# Altium schematic symbol library CompPas.SchLib: 18 symbols
Pins are listed as number, name and electrical type; pins without a type are passive.

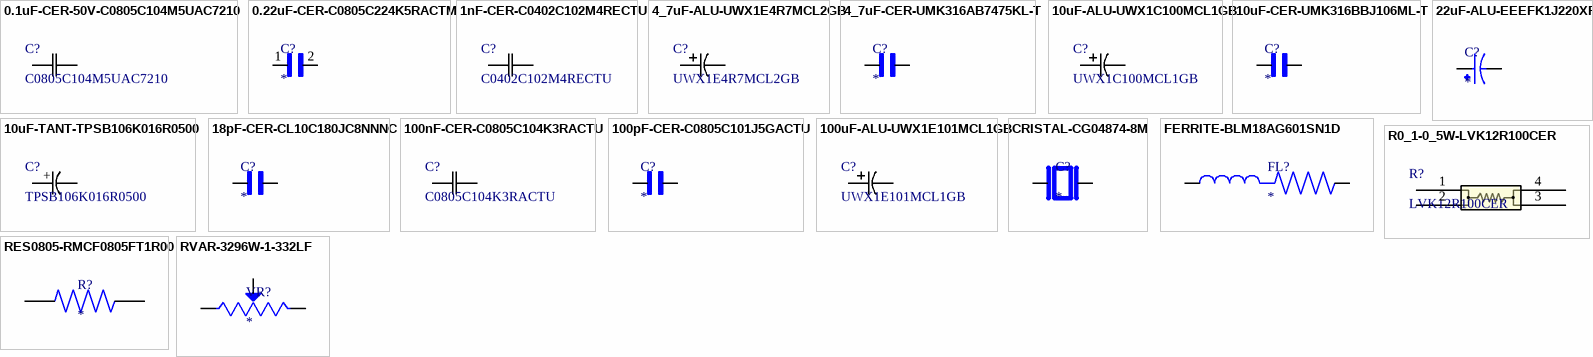
[diagram p0: symbols 0.1uF-CER-50V-C0805C104M5UAC7210 to RVAR-3296W-1-332LF]

## 0.1uF-CER-50V-C0805C104M5UAC7210
designator C?, comment C0805C104M5UAC7210
SMD Comm Z5U, Ceramic, 0.1 uF, 20%, 50 VDC, Z5U, SMD, MLCC, General Purpose, Class III, 0805; Manufacturer_Name: Kemet; Copyright: Copyright (C) 2026 Ultra Librarian. All rights reserved.; Manufacturer_Part_Number: C0805C104M5UAC7210; Datasheet: https://content.kemet.com/datasheets/KEM_C1004_Z5U_SMD.pdf
footprint CAPC220145_88N_KEM-M
pins: 1, 2

## 0.22uF-CER-C0805C224K5RACTM
designator C?
MP: C0805C224K5RACTM; Package: None; Price: None; Value: *; Availability: Unavailable
footprint CAPC2012X88N
pins: 1, 2

## 1nF-CER-C0402C102M4RECTU
designator C?, comment C0402C102M4RECTU
ESD SMD Comm X7R, Ceramic, 1000 pF, 20%, 16 VDC, X7R, SMD, MLCC, Temperature Stable, Electro Static Discharge, Class II, 0402; Manufacturer_Name: Kemet; Copyright: Copyright (C) 2026 Ultra Librarian. All rights reserved.; Manufacturer_Part_Number: C0402C102M4RECTU; Datasheet: https://content.kemet.com/datasheets/KEM_C1090_X7R_ESD.pdf
footprint CAPC10555_55N_KEM-M
pins: 1, 2

## 4_7uF-ALU-UWX1E4R7MCL2GB
designator C?, comment UWX1E4R7MCL2GB
Manufacturer_Name: Nichicon; Copyright: Copyright (C) 2026 Ultra Librarian. All rights reserved.; Manufacturer_Part_Number: UWX1E4R7MCL2GB
footprint PCAP_4x5.4-ELECT_NCA-m
pins: 1, 2

## 4_7uF-CER-UMK316AB7475KL-T
designator C?
Voltage: 50V; MF: Taiyo Yuden; MP: UMK316AB7475KLT; SnapEDA_Link: https://www.snapeda.com/parts/UMK316AB7475KLT/Taiyo+Yuden/view-part/?ref=snap; Package: SMD-2 TAIYO; Value: *; Check_prices: https://www.snapeda.com/parts/UMK316AB7475KLT/Taiyo+Yuden/view-part/?ref=eda
footprint CAPC3216X180N
pins: 1, 2

## 10uF-ALU-UWX1C100MCL1GB
designator C?, comment UWX1C100MCL1GB
Manufacturer_Name: Nichicon; Copyright: Copyright (C) 2026 Ultra Librarian. All rights reserved.; Manufacturer_Part_Number: UWX1C100MCL1GB
footprint PCAP_4x5.4-ELECT_NCA-M
pins: 1, 2

## 10uF-CER-UMK316BBJ106ML-T
designator C?
10 µF ±20% 50V Ceramic Capacitor X5R 1206 (3216 Metric); MF: Taiyo Yuden; MP: UMK316BBJ106ML-T; SnapEDA_Link: https://www.snapeda.com/parts/UMK316BBJ106ML-T/Taiyo+Yuden/view-part/?ref=snap; Package: 3216 Taiyo Yuden; Value: *; Check_prices: https://www.snapeda.com/parts/UMK316BBJ106ML-T/Taiyo+Yuden/view-part/?ref=eda
footprint CAPC3216X190N
pins: 1, 2

## 10uF-TANT-TPSB106K016R0500
designator C?, comment TPSB106K016R0500
Description; Manufacturer_Name: KYOCERA AVX; Copyright: Copyright (C) 2026 Ultra Librarian. All rights reserved.; Manufacturer_Part_Number: TPSB106K016R0500
footprint CAP_TPS_B_AVX-m
pins: 1, 2
text: +

## 18pF-CER-CL10C180JC8NNNC
designator C?
MF: {'manufacturer': u'Samsung Electro-Mechanics'}; MP: CL10C180JC8NNNC; Package: None; Price: None; Value: *; Availability: Unavailable
footprint CAPC1608X90N
pins: 1, 2

## 22uF-ALU-EEEFK1J220XP
designator C?
22 µF 63V Aluminum Electrolytic Capacitors Radial, Can - SMD 2000 Hrs @ 105 °C; MF: Panasonic; MP: EEEFK1J220XP; SnapEDA_Link: https://www.snapeda.com/parts/EEEFK1J220XP/Panasonic/view-part/?ref=snap; Package: RADIAL-2 Panasonic; Value: *; Check_prices: https://www.snapeda.com/parts/EEEFK1J220XP/Panasonic/view-part/?ref=eda
footprint CAP_EEEFK1J220XP
pins: 1, 2

## 100nF-CER-C0805C104K3RACTU
designator C?, comment C0805C104K3RACTU
SMD Comm X7R, Ceramic, 0.1 uF, 10%, 25 VDC, X7R, SMD, MLCC, Temperature Stable, Class II, 0805; Manufacturer_Name: Kemet; Copyright: Copyright (C) 2025 Ultra Librarian. All rights reserved.; Manufacturer_Part_Number: C0805C104K3RACTU
footprint CAPC220145_88N_KEM-M
pins: 1, 2

## 100pF-CER-C0805C101J5GACTU
designator C?
Capacitor;Ceramic;Cap;100.pF;Tol+5%;SMT;Vol-Rtg 50V;C0G;TR | KEMET C0805C101J5GACTU; SnapEDA_Link: https://www.snapeda.com/parts/C0805C101J5GACTU/KEMET/view-part/?ref=snap; Package: 2012 KEMET; Value: *; MF: KEMET; MP: C0805C101J5GACTU; Check_prices: https://www.snapeda.com/parts/C0805C101J5GACTU/KEMET/view-part/?ref=eda
footprint CAPC2012X88N
pins: 1, 2

## 100uF-ALU-UWX1E101MCL1GB
designator C?, comment UWX1E101MCL1GB
Description; Manufacturer_Name: Nichicon; Copyright: Copyright (C) 2025 Ultra Librarian. All rights reserved.; Manufacturer_Part_Number: UWX1E101MCL1GB
footprint PCAP_8x5.4-ELECT_NCA-M
pins: 1, 2

## CRISTAL-CG04874-8M
designator C?
8 MHz ±20ppm Crystal 8pF 500 Ohms 2-SMD, No Lead; MF: NDK America, Inc.; MP: CG04874-8M; SnapEDA_Link: https://www.snapeda.com/parts/CG04874-8M/NDK+America%252C+Inc./view-part/?ref=snap; Package: SMD-2 NDK America,; Value: *; Check_prices: https://www.snapeda.com/parts/CG04874-8M/NDK+America%252C+Inc./view-part/?ref=eda
footprint XTALDFN320X250X100-2N
pins: 1, 2

## FERRITE-BLM18AG601SN1D
designator FL?
600 Ohms @ 100 MHz 1 - Ferrite Bead 0603 (1608 Metric) 500mA 380mOhm; MF: Murata; MP: BLM18AG601SN1D; Check_prices: https://www.snapeda.com/parts/BLM18AG601SN1D/Murata/view-part/?ref=eda; SnapEDA_Link: https://www.snapeda.com/parts/BLM18AG601SN1D/Murata/view-part/?ref=snap; Availability: In Stock; Value: *; Price: None; Package: 1608 Murata; Purchase-URL: https://pricing.snapeda.com/search/part/BLM18AG601SN1D/?ref=eda
footprint BEADC1608X95N
pins: 1, 2

## R0_1-0_5W-LVK12R100CER
designator R?, comment LVK12R100CER
Description; Manufacturer_Name: Ohmite; Copyright: Copyright (C) 2025 Ultra Librarian. All rights reserved.; Manufacturer_Part_Number: LVK12R100CER; RefDes: RefDes; Type: Type
footprint LVK12_OHM-m
pins: 1, 2, 3, 4

## RES0805-RMCF0805FT1R00
designator R?
MP: RMCF0805FT1R00; Package: None; Price: None; Value: *; Availability: Unavailable
footprint RESC2012X65N
pins: 1, 2

## RVAR-3296W-1-332LF
designator VR?
3/8 Sq, Thru-Hole, TRIMMER, 3.3 Kilohms, Cermet, 25 Turns, Pwr-Rtg 0.5W | Bourns 3296W-1-332LF; SnapEDA_Link: https://www.snapeda.com/parts/3296W-1-332LF/Bourns/view-part/?ref=snap; Package: NON STANDARD-3 Bourns; Value: *; MF: Bourns; MP: 3296W-1-332LF; Check_prices: https://www.snapeda.com/parts/3296W-1-332LF/Bourns/view-part/?ref=eda
footprint TRIM_3296W-1-332LF
pins: 1 CCW, 2 WIPER, 3 CW